# Altium schematic symbol library IHM_ed01r01.SchLib: 1 symbol
Pins are listed as number, name and electrical type; pins without a type are passive.

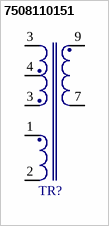
[diagram p0: symbol 7508110151]

## 7508110151
designator TR?  (value not drawn)
WE-UNIT OFFLINE TRANSFORMER 7508110151
footprint 7508110151
pins: 1, 2, 3, 3, 4, 7, 9